# Altium schematic symbol library WE-LQ.SchLib: 52 symbols
Pins are listed as number, name and electrical type; pins without a type are passive.

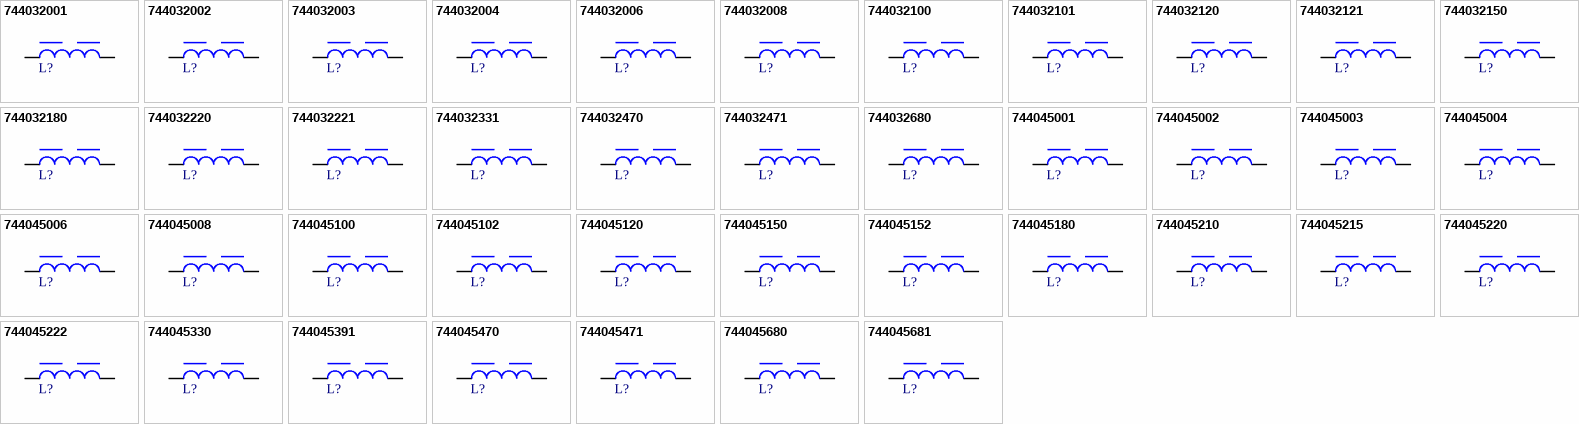
[diagram p0: symbols 744032001 to 744045681]

## 744032001
designator L?, comment 1uH, 0.75A  (value not drawn)
WE-LQ SMT Power Inductor, size 1210, 1uH, 0.75A; Manufacturer Part Number: 744032001; Manufacturer: Wurth Elektronik; Case/Size Code: 1210; DC Resistance Max: 0.1Ohm; Q Factor: 20; Saturation Current: 3.2A; Self Resonant Frequency: 100MHz; Category: Power Inductors; Match Code: WE-LQ; ComponentLink1Description: Website Link; ComponentLink1URL: https://www.we-online.com/redexpert/article/744032001?ad; ComponentLink2Description: Datasheet Link; ComponentLink2URL: https://www.we-online.com/redexpert/spec/744032001?ad; Mount: Surface Mount; Operating Temperature Max: 125°C; Operating Temperature Min: -40°C; Packaging: Tape and Reel; Length: 3.2mm; Width: 2.5mm; Height: 2mm; Inductance: 1uH; Rated Current: 0.75A
footprint WE-LQ_1210
simulation model 1210_744032001_1u
pins: 1, 2

## 744032002
designator L?, comment 2.2uH, 0.62A  (value not drawn)
WE-LQ SMT Power Inductor, size 1210, 2.2uH, 0.62A; Manufacturer Part Number: 744032002; Manufacturer: Wurth Elektronik; Case/Size Code: 1210; DC Resistance Max: 0.15Ohm; Q Factor: 20; Saturation Current: 1.8A; Self Resonant Frequency: 50MHz; Category: Power Inductors; Match Code: WE-LQ; ComponentLink1Description: Website Link; ComponentLink1URL: https://www.we-online.com/redexpert/article/744032002?ad; ComponentLink2Description: Datasheet Link; ComponentLink2URL: https://www.we-online.com/redexpert/spec/744032002?ad; Mount: Surface Mount; Operating Temperature Max: 125°C; Operating Temperature Min: -40°C; Packaging: Tape and Reel; Length: 3.2mm; Width: 2.5mm; Height: 2mm; Inductance: 2.2uH; Rated Current: 0.62A
footprint WE-LQ_1210
simulation model 1210_744032002_2.2u
pins: 1, 2

## 744032003
designator L?, comment 3.3uH, 0.58A  (value not drawn)
WE-LQ SMT Power Inductor, size 1210, 3.3uH, 0.58A; Manufacturer Part Number: 744032003; Manufacturer: Wurth Elektronik; Case/Size Code: 1210; DC Resistance Max: 0.2Ohm; Q Factor: 20; Saturation Current: 1.5A; Self Resonant Frequency: 38MHz; Category: Power Inductors; Match Code: WE-LQ; ComponentLink1Description: Website Link; ComponentLink1URL: https://www.we-online.com/redexpert/article/744032003?ad; ComponentLink2Description: Datasheet Link; ComponentLink2URL: https://www.we-online.com/redexpert/spec/744032003?ad; Mount: Surface Mount; Operating Temperature Max: 125°C; Operating Temperature Min: -40°C; Packaging: Tape and Reel; Length: 3.2mm; Width: 2.5mm; Height: 2mm; Inductance: 3.3uH; Rated Current: 0.58A
footprint WE-LQ_1210
simulation model 1210_744032003_3.3u
pins: 1, 2

## 744032004
designator L?, comment 4.7uH, 0.49A  (value not drawn)
WE-LQ SMT Power Inductor, size 1210, 4.7uH, 0.49A; Manufacturer Part Number: 744032004; Manufacturer: Wurth Elektronik; Case/Size Code: 1210; DC Resistance Max: 0.28Ohm; Q Factor: 20; Saturation Current: 1.25A; Self Resonant Frequency: 31MHz; Category: Power Inductors; Match Code: WE-LQ; ComponentLink1Description: Website Link; ComponentLink1URL: https://www.we-online.com/redexpert/article/744032004?ad; ComponentLink2Description: Datasheet Link; ComponentLink2URL: https://www.we-online.com/redexpert/spec/744032004?ad; Mount: Surface Mount; Operating Temperature Max: 125°C; Operating Temperature Min: -40°C; Packaging: Tape and Reel; Length: 3.2mm; Width: 2.5mm; Height: 2mm; Inductance: 4.7uH; Rated Current: 0.49A
footprint WE-LQ_1210
simulation model 1210_744032004_4.7u
pins: 1, 2

## 744032006
designator L?, comment 6.8uH, 0.42A  (value not drawn)
WE-LQ SMT Power Inductor, size 1210, 6.8uH, 0.42A; Manufacturer Part Number: 744032006; Manufacturer: Wurth Elektronik; Case/Size Code: 1210; DC Resistance Max: 0.4Ohm; Q Factor: 20; Saturation Current: 1.1A; Self Resonant Frequency: 25MHz; Category: Power Inductors; Match Code: WE-LQ; ComponentLink1Description: Website Link; ComponentLink1URL: https://www.we-online.com/redexpert/article/744032006?ad; ComponentLink2Description: Datasheet Link; ComponentLink2URL: https://www.we-online.com/redexpert/spec/744032006?ad; Mount: Surface Mount; Operating Temperature Max: 125°C; Operating Temperature Min: -40°C; Packaging: Tape and Reel; Length: 3.2mm; Width: 2.5mm; Height: 2mm; Inductance: 6.8uH; Rated Current: 0.42A
footprint WE-LQ_1210
simulation model 1210_744032006_6.8u
pins: 1, 2

## 744032008
designator L?, comment 8.2uH, 0.39A  (value not drawn)
WE-LQ SMT Power Inductor, size 1210, 8.2uH, 0.39A; Manufacturer Part Number: 744032008; Manufacturer: Wurth Elektronik; Case/Size Code: 1210; DC Resistance Max: 0.45Ohm; Q Factor: 20; Saturation Current: 0.95A; Self Resonant Frequency: 23MHz; Category: Power Inductors; Match Code: WE-LQ; ComponentLink1Description: Website Link; ComponentLink1URL: https://www.we-online.com/redexpert/article/744032008?ad; ComponentLink2Description: Datasheet Link; ComponentLink2URL: https://www.we-online.com/redexpert/spec/744032008?ad; Mount: Surface Mount; Operating Temperature Max: 125°C; Operating Temperature Min: -40°C; Packaging: Tape and Reel; Length: 3.2mm; Width: 2.5mm; Height: 2mm; Inductance: 8.2uH; Rated Current: 0.39A
footprint WE-LQ_1210
simulation model 1210_744032008_8.2u
pins: 1, 2

## 744032100
designator L?, comment 10uH, 0.32A  (value not drawn)
WE-LQ SMT Power Inductor, size 1210, 10uH, 0.32A; Manufacturer Part Number: 744032100; Manufacturer: Wurth Elektronik; Case/Size Code: 1210; DC Resistance Max: 0.65Ohm; Q Factor: 35; Saturation Current: 0.85A; Self Resonant Frequency: 20MHz; Category: Power Inductors; Match Code: WE-LQ; ComponentLink1Description: Website Link; ComponentLink1URL: https://www.we-online.com/redexpert/article/744032100?ad; ComponentLink2Description: Datasheet Link; ComponentLink2URL: https://www.we-online.com/redexpert/spec/744032100?ad; Mount: Surface Mount; Operating Temperature Max: 125°C; Operating Temperature Min: -40°C; Packaging: Tape and Reel; Length: 3.2mm; Width: 2.5mm; Height: 2mm; Inductance: 10uH; Rated Current: 0.32A
footprint WE-LQ_1210
simulation model 1210_744032100_10u
pins: 1, 2

## 744032101
designator L?, comment 100uH, 0.1A  (value not drawn)
WE-LQ SMT Power Inductor, size 1210, 100uH, 0.1A; Manufacturer Part Number: 744032101; Manufacturer: Wurth Elektronik; Case/Size Code: 1210; DC Resistance Max: 6.5Ohm; Q Factor: 40; Saturation Current: 0.25A; Self Resonant Frequency: 8MHz; Category: Power Inductors; Match Code: WE-LQ; ComponentLink1Description: Website Link; ComponentLink1URL: https://www.we-online.com/redexpert/article/744032101?ad; ComponentLink2Description: Datasheet Link; ComponentLink2URL: https://www.we-online.com/redexpert/spec/744032101?ad; Mount: Surface Mount; Operating Temperature Max: 125°C; Operating Temperature Min: -40°C; Packaging: Tape and Reel; Length: 3.2mm; Width: 2.5mm; Height: 2mm; Inductance: 100uH; Rated Current: 0.1A
footprint WE-LQ_1210
simulation model 1210_744032101_100u
pins: 1, 2

## 744032120
designator L?, comment 12uH, 0.29A  (value not drawn)
WE-LQ SMT Power Inductor, size 1210, 12uH, 0.29A; Manufacturer Part Number: 744032120; Manufacturer: Wurth Elektronik; Case/Size Code: 1210; DC Resistance Max: 0.7Ohm; Q Factor: 35; Saturation Current: 0.78A; Self Resonant Frequency: 18MHz; Category: Power Inductors; Match Code: WE-LQ; ComponentLink1Description: Website Link; ComponentLink1URL: https://www.we-online.com/redexpert/article/744032120?ad; ComponentLink2Description: Datasheet Link; ComponentLink2URL: https://www.we-online.com/redexpert/spec/744032120?ad; Mount: Surface Mount; Operating Temperature Max: 125°C; Operating Temperature Min: -40°C; Packaging: Tape and Reel; Length: 3.2mm; Width: 2.5mm; Height: 2mm; Inductance: 12uH; Rated Current: 0.29A
footprint WE-LQ_1210
simulation model 1210_744032120_12u
pins: 1, 2

## 744032121
designator L?, comment 120uH, 0.095A  (value not drawn)
WE-LQ SMT Power Inductor, size 1210, 120uH, 0.095A; Manufacturer Part Number: 744032121; Manufacturer: Wurth Elektronik; Case/Size Code: 1210; DC Resistance Max: 7Ohm; Q Factor: 40; Saturation Current: 0.18A; Self Resonant Frequency: 7MHz; Category: Power Inductors; Match Code: WE-LQ; ComponentLink1Description: Website Link; ComponentLink1URL: https://www.we-online.com/redexpert/article/744032121?ad; ComponentLink2Description: Datasheet Link; ComponentLink2URL: https://www.we-online.com/redexpert/spec/744032121?ad; Mount: Surface Mount; Operating Temperature Max: 125°C; Operating Temperature Min: -40°C; Packaging: Tape and Reel; Length: 3.2mm; Width: 2.5mm; Height: 2mm; Inductance: 120uH; Rated Current: 0.095A
footprint WE-LQ_1210
simulation model 1210_744032121_120u
pins: 1, 2

## 744032150
designator L?, comment 15uH, 0.27A  (value not drawn)
WE-LQ SMT Power Inductor, size 1210, 15uH, 0.27A; Manufacturer Part Number: 744032150; Manufacturer: Wurth Elektronik; Case/Size Code: 1210; DC Resistance Max: 1Ohm; Q Factor: 35; Saturation Current: 0.7A; Self Resonant Frequency: 16MHz; Category: Power Inductors; Match Code: WE-LQ; ComponentLink1Description: Website Link; ComponentLink1URL: https://www.we-online.com/redexpert/article/744032150?ad; ComponentLink2Description: Datasheet Link; ComponentLink2URL: https://www.we-online.com/redexpert/spec/744032150?ad; Mount: Surface Mount; Operating Temperature Max: 125°C; Operating Temperature Min: -40°C; Packaging: Tape and Reel; Length: 3.2mm; Width: 2.5mm; Height: 2mm; Inductance: 15uH; Rated Current: 0.27A
footprint WE-LQ_1210
simulation model 1210_744032150_15u
pins: 1, 2

## 744032180
designator L?, comment 18uH, 0.24A  (value not drawn)
WE-LQ SMT Power Inductor, size 1210, 18uH, 0.24A; Manufacturer Part Number: 744032180; Manufacturer: Wurth Elektronik; Case/Size Code: 1210; DC Resistance Max: 1.1Ohm; Q Factor: 35; Saturation Current: 0.65A; Self Resonant Frequency: 15MHz; Category: Power Inductors; Match Code: WE-LQ; ComponentLink1Description: Website Link; ComponentLink1URL: https://www.we-online.com/redexpert/article/744032180?ad; ComponentLink2Description: Datasheet Link; ComponentLink2URL: https://www.we-online.com/redexpert/spec/744032180?ad; Mount: Surface Mount; Operating Temperature Max: 125°C; Operating Temperature Min: -40°C; Packaging: Tape and Reel; Length: 3.2mm; Width: 2.5mm; Height: 2mm; Inductance: 18uH; Rated Current: 0.24A
footprint WE-LQ_1210
simulation model 1210_744032180_18u
pins: 1, 2

## 744032220
designator L?, comment 22uH, 0.22A  (value not drawn)
WE-LQ SMT Power Inductor, size 1210, 22uH, 0.22A; Manufacturer Part Number: 744032220; Manufacturer: Wurth Elektronik; Case/Size Code: 1210; DC Resistance Max: 1.3Ohm; Q Factor: 35; Saturation Current: 0.6A; Self Resonant Frequency: 14MHz; Category: Power Inductors; Match Code: WE-LQ; ComponentLink1Description: Website Link; ComponentLink1URL: https://www.we-online.com/redexpert/article/744032220?ad; ComponentLink2Description: Datasheet Link; ComponentLink2URL: https://www.we-online.com/redexpert/spec/744032220?ad; Mount: Surface Mount; Operating Temperature Max: 125°C; Operating Temperature Min: -40°C; Packaging: Tape and Reel; Length: 3.2mm; Width: 2.5mm; Height: 2mm; Inductance: 22uH; Rated Current: 0.22A
footprint WE-LQ_1210
simulation model 1210_744032220_22u
pins: 1, 2

## 744032221
designator L?, comment 220uH, 0.075A  (value not drawn)
WE-LQ SMT Power Inductor, size 1210, 220uH, 0.075A; Manufacturer Part Number: 744032221; Manufacturer: Wurth Elektronik; Case/Size Code: 1210; DC Resistance Max: 11.8Ohm; Q Factor: 40; Saturation Current: 0.24A; Self Resonant Frequency: 5MHz; Category: Power Inductors; Match Code: WE-LQ; ComponentLink1Description: Website Link; ComponentLink1URL: https://www.we-online.com/redexpert/article/744032221?ad; ComponentLink2Description: Datasheet Link; ComponentLink2URL: https://www.we-online.com/redexpert/spec/744032221?ad; Mount: Surface Mount; Operating Temperature Max: 125°C; Operating Temperature Min: -40°C; Packaging: Tape and Reel; Length: 3.2mm; Width: 2.5mm; Height: 2mm; Inductance: 220uH; Rated Current: 0.075A
footprint WE-LQ_1210
simulation model 1210_744032221_220u
pins: 1, 2

## 744032331
designator L?, comment 330uH, 0.065A  (value not drawn)
WE-LQ SMT Power Inductor, size 1210, 330uH, 0.065A; Manufacturer Part Number: 744032331; Manufacturer: Wurth Elektronik; Case/Size Code: 1210; DC Resistance Max: 16.5Ohm; Q Factor: 40; Saturation Current: 0.18A; Self Resonant Frequency: 5MHz; Category: Power Inductors; Match Code: WE-LQ; ComponentLink1Description: Website Link; ComponentLink1URL: https://www.we-online.com/redexpert/article/744032331?ad; ComponentLink2Description: Datasheet Link; ComponentLink2URL: https://www.we-online.com/redexpert/spec/744032331?ad; Mount: Surface Mount; Operating Temperature Max: 125°C; Operating Temperature Min: -40°C; Packaging: Tape and Reel; Length: 3.2mm; Width: 2.5mm; Height: 2mm; Inductance: 330uH; Rated Current: 0.065A
footprint WE-LQ_1210
simulation model 1210_744032331_330u
pins: 1, 2

## 744032470
designator L?, comment 47uH, 0.146A  (value not drawn)
WE-LQ SMT Power Inductor, size 1210, 47uH, 0.146A; Manufacturer Part Number: 744032470; Manufacturer: Wurth Elektronik; Case/Size Code: 1210; DC Resistance Max: 3Ohm; Q Factor: 40; Saturation Current: 0.4A; Self Resonant Frequency: 11MHz; Category: Power Inductors; Match Code: WE-LQ; ComponentLink1Description: Website Link; ComponentLink1URL: https://www.we-online.com/redexpert/article/744032470?ad; ComponentLink2Description: Datasheet Link; ComponentLink2URL: https://www.we-online.com/redexpert/spec/744032470?ad; Mount: Surface Mount; Operating Temperature Max: 125°C; Operating Temperature Min: -40°C; Packaging: Tape and Reel; Length: 3.2mm; Width: 2.5mm; Height: 2mm; Inductance: 47uH; Rated Current: 0.146A
footprint WE-LQ_1210
simulation model 1210_744032470_47u
pins: 1, 2

## 744032471
designator L?, comment 470uH, 0.055A  (value not drawn)
WE-LQ SMT Power Inductor, size 1210, 470uH, 0.055A; Manufacturer Part Number: 744032471; Manufacturer: Wurth Elektronik; Case/Size Code: 1210; DC Resistance Max: 25Ohm; Q Factor: 46; Saturation Current: 0.12A; Self Resonant Frequency: 5MHz; Category: Power Inductors; Match Code: WE-LQ; ComponentLink1Description: Website Link; ComponentLink1URL: https://www.we-online.com/redexpert/article/744032471?ad; ComponentLink2Description: Datasheet Link; ComponentLink2URL: https://www.we-online.com/redexpert/spec/744032471?ad; Mount: Surface Mount; Operating Temperature Max: 125°C; Operating Temperature Min: -40°C; Packaging: Tape and Reel; Length: 3.2mm; Width: 2.5mm; Height: 2mm; Inductance: 470uH; Rated Current: 0.055A
footprint WE-LQ_1210
simulation model 1210_744032471_470u
pins: 1, 2

## 744032680
designator L?, comment 68uH, 0.13A  (value not drawn)
WE-LQ SMT Power Inductor, size 1210, 68uH, 0.13A; Manufacturer Part Number: 744032680; Manufacturer: Wurth Elektronik; Case/Size Code: 1210; DC Resistance Max: 3.8Ohm; Q Factor: 35; Saturation Current: 0.3A; Self Resonant Frequency: 9MHz; Category: Power Inductors; Match Code: WE-LQ; ComponentLink1Description: Website Link; ComponentLink1URL: https://www.we-online.com/redexpert/article/744032680?ad; ComponentLink2Description: Datasheet Link; ComponentLink2URL: https://www.we-online.com/redexpert/spec/744032680?ad; Mount: Surface Mount; Operating Temperature Max: 125°C; Operating Temperature Min: -40°C; Packaging: Tape and Reel; Length: 3.2mm; Width: 2.5mm; Height: 2mm; Inductance: 68uH; Rated Current: 0.13A
footprint WE-LQ_1210
simulation model 1210_744032680_68u
pins: 1, 2

## 744045001
designator L?, comment 1uH, 1.8A  (value not drawn)
WE-LQ SMT Power Inductor, size 1812, 1uH, 1.8A; Manufacturer Part Number: 744045001; Manufacturer: Wurth Elektronik; Case/Size Code: 1812; DC Resistance Max: 0.08Ohm; Q Factor: 40; Saturation Current: 4.4A; Self Resonant Frequency: 165MHz; Category: Power Inductors; Match Code: WE-LQ; ComponentLink1Description: Website Link; ComponentLink1URL: https://www.we-online.com/redexpert/article/744045001?ad; ComponentLink2Description: Datasheet Link; ComponentLink2URL: https://www.we-online.com/redexpert/spec/744045001?ad; Mount: Surface Mount; Operating Temperature Max: 125°C; Operating Temperature Min: -40°C; Packaging: Tape and Reel; Length: 4.5mm; Width: 3.2mm; Height: 2.6mm; Inductance: 1uH; Rated Current: 1.8A
footprint WE-LQ_1812
simulation model 1812_744045001_1u
pins: 1, 2

## 744045002
designator L?, comment 2.2uH, 1.6A  (value not drawn)
WE-LQ SMT Power Inductor, size 1812, 2.2uH, 1.6A; Manufacturer Part Number: 744045002; Manufacturer: Wurth Elektronik; Case/Size Code: 1812; DC Resistance Max: 0.11Ohm; Q Factor: 40; Saturation Current: 2.75A; Self Resonant Frequency: 80MHz; Category: Power Inductors; Match Code: WE-LQ; ComponentLink1Description: Website Link; ComponentLink1URL: https://www.we-online.com/redexpert/article/744045002?ad; ComponentLink2Description: Datasheet Link; ComponentLink2URL: https://www.we-online.com/redexpert/spec/744045002?ad; Mount: Surface Mount; Operating Temperature Max: 125°C; Operating Temperature Min: -40°C; Packaging: Tape and Reel; Length: 4.5mm; Width: 3.2mm; Height: 2.6mm; Inductance: 2.2uH; Rated Current: 1.6A
footprint WE-LQ_1812
simulation model 1812_744045002_2.2u
pins: 1, 2

## 744045003
designator L?, comment 3.3uH, 1.4A  (value not drawn)
WE-LQ SMT Power Inductor, size 1812, 3.3uH, 1.4A; Manufacturer Part Number: 744045003; Manufacturer: Wurth Elektronik; Case/Size Code: 1812; DC Resistance Max: 0.13Ohm; Q Factor: 45; Saturation Current: 2.7A; Self Resonant Frequency: 58MHz; Category: Power Inductors; Match Code: WE-LQ; ComponentLink1Description: Website Link; ComponentLink1URL: https://www.we-online.com/redexpert/article/744045003?ad; ComponentLink2Description: Datasheet Link; ComponentLink2URL: https://www.we-online.com/redexpert/spec/744045003?ad; Mount: Surface Mount; Operating Temperature Max: 125°C; Operating Temperature Min: -40°C; Packaging: Tape and Reel; Length: 4.5mm; Width: 3.2mm; Height: 2.6mm; Inductance: 3.3uH; Rated Current: 1.4A
footprint WE-LQ_1812
simulation model 1812_744045003_3.3u
pins: 1, 2

## 744045004
designator L?, comment 4.7uH, 1.24A  (value not drawn)
WE-LQ SMT Power Inductor, size 1812, 4.7uH, 1.24A; Manufacturer Part Number: 744045004; Manufacturer: Wurth Elektronik; Case/Size Code: 1812; DC Resistance Max: 0.15Ohm; Q Factor: 36; Saturation Current: 2A; Self Resonant Frequency: 45MHz; Category: Power Inductors; Match Code: WE-LQ; ComponentLink1Description: Website Link; ComponentLink1URL: https://www.we-online.com/redexpert/article/744045004?ad; ComponentLink2Description: Datasheet Link; ComponentLink2URL: https://www.we-online.com/redexpert/spec/744045004?ad; Mount: Surface Mount; Operating Temperature Max: 125°C; Operating Temperature Min: -40°C; Packaging: Tape and Reel; Length: 4.5mm; Width: 3.2mm; Height: 2.6mm; Inductance: 4.7uH; Rated Current: 1.24A
footprint WE-LQ_1812
simulation model 1812_744045004_4.7u
pins: 1, 2

## 744045006
designator L?, comment 6.8uH, 1.1A  (value not drawn)
WE-LQ SMT Power Inductor, size 1812, 6.8uH, 1.1A; Manufacturer Part Number: 744045006; Manufacturer: Wurth Elektronik; Case/Size Code: 1812; DC Resistance Max: 0.2Ohm; Q Factor: 36; Saturation Current: 1.6A; Self Resonant Frequency: 37MHz; Category: Power Inductors; Match Code: WE-LQ; ComponentLink1Description: Website Link; ComponentLink1URL: https://www.we-online.com/redexpert/article/744045006?ad; ComponentLink2Description: Datasheet Link; ComponentLink2URL: https://www.we-online.com/redexpert/spec/744045006?ad; Mount: Surface Mount; Operating Temperature Max: 125°C; Operating Temperature Min: -40°C; Packaging: Tape and Reel; Length: 4.5mm; Width: 3.2mm; Height: 2.6mm; Inductance: 6.8uH; Rated Current: 1.1A
footprint WE-LQ_1812
simulation model 1812_744045006_6.8u
pins: 1, 2

## 744045008
designator L?, comment 8.2uH, 1A  (value not drawn)
WE-LQ SMT Power Inductor, size 1812, 8.2uH, 1A; Manufacturer Part Number: 744045008; Manufacturer: Wurth Elektronik; Case/Size Code: 1812; DC Resistance Max: 0.25Ohm; Q Factor: 36; Saturation Current: 1.6A; Self Resonant Frequency: 34MHz; Category: Power Inductors; Match Code: WE-LQ; ComponentLink1Description: Website Link; ComponentLink1URL: https://www.we-online.com/redexpert/article/744045008?ad; ComponentLink2Description: Datasheet Link; ComponentLink2URL: https://www.we-online.com/redexpert/spec/744045008?ad; Mount: Surface Mount; Operating Temperature Max: 125°C; Operating Temperature Min: -40°C; Packaging: Tape and Reel; Length: 4.5mm; Width: 3.2mm; Height: 2.6mm; Inductance: 8.2uH; Rated Current: 1A
footprint WE-LQ_1812
simulation model 1812_744045008_8.2u
pins: 1, 2

## 744045100
designator L?, comment 10uH, 0.95A  (value not drawn)
WE-LQ SMT Power Inductor, size 1812, 10uH, 0.95A; Manufacturer Part Number: 744045100; Manufacturer: Wurth Elektronik; Case/Size Code: 1812; DC Resistance Max: 0.3Ohm; Q Factor: 48; Saturation Current: 1.5A; Self Resonant Frequency: 30MHz; Category: Power Inductors; Match Code: WE-LQ; ComponentLink1Description: Website Link; ComponentLink1URL: https://www.we-online.com/redexpert/article/744045100?ad; ComponentLink2Description: Datasheet Link; ComponentLink2URL: https://www.we-online.com/redexpert/spec/744045100?ad; Mount: Surface Mount; Operating Temperature Max: 125°C; Operating Temperature Min: -40°C; Packaging: Tape and Reel; Length: 4.5mm; Width: 3.2mm; Height: 2.6mm; Inductance: 10uH; Rated Current: 0.95A
footprint WE-LQ_1812
simulation model 1812_744045100_10u
pins: 1, 2

## 744045102
designator L?, comment 1000uH, 0.07A  (value not drawn)
WE-LQ SMT Power Inductor, size 1812, 1000uH, 0.07A; Manufacturer Part Number: 744045102; Manufacturer: Wurth Elektronik; Case/Size Code: 1812; DC Resistance Max: 30Ohm; Q Factor: 28; Saturation Current: 0.16A; Self Resonant Frequency: 2MHz; Category: Power Inductors; Match Code: WE-LQ; ComponentLink1Description: Website Link; ComponentLink1URL: https://www.we-online.com/redexpert/article/744045102?ad; ComponentLink2Description: Datasheet Link; ComponentLink2URL: https://www.we-online.com/redexpert/spec/744045102?ad; Mount: Surface Mount; Operating Temperature Max: 125°C; Operating Temperature Min: -40°C; Packaging: Tape and Reel; Length: 4.5mm; Width: 3.2mm; Height: 2.6mm; Inductance: 1000uH; Rated Current: 0.07A
footprint WE-LQ_1812
simulation model 1812_744045102_1m
pins: 1, 2

## 744045120
designator L?, comment 12uH, 0.8A  (value not drawn)
WE-LQ SMT Power Inductor, size 1812, 12uH, 0.8A; Manufacturer Part Number: 744045120; Manufacturer: Wurth Elektronik; Case/Size Code: 1812; DC Resistance Max: 0.42Ohm; Q Factor: 48; Saturation Current: 1.4A; Self Resonant Frequency: 28MHz; Category: Power Inductors; Match Code: WE-LQ; ComponentLink1Description: Website Link; ComponentLink1URL: https://www.we-online.com/redexpert/article/744045120?ad; ComponentLink2Description: Datasheet Link; ComponentLink2URL: https://www.we-online.com/redexpert/spec/744045120?ad; Mount: Surface Mount; Operating Temperature Max: 125°C; Operating Temperature Min: -40°C; Packaging: Tape and Reel; Length: 4.5mm; Width: 3.2mm; Height: 2.6mm; Inductance: 12uH; Rated Current: 0.8A
footprint WE-LQ_1812
simulation model 1812_744045120_12u
pins: 1, 2

## 744045150
designator L?, comment 15uH, 0.73A  (value not drawn)
WE-LQ SMT Power Inductor, size 1812, 15uH, 0.73A; Manufacturer Part Number: 744045150; Manufacturer: Wurth Elektronik; Case/Size Code: 1812; DC Resistance Max: 0.5Ohm; Q Factor: 45; Saturation Current: 1.24A; Self Resonant Frequency: 26MHz; Category: Power Inductors; Match Code: WE-LQ; ComponentLink1Description: Website Link; ComponentLink1URL: https://www.we-online.com/redexpert/article/744045150?ad; ComponentLink2Description: Datasheet Link; ComponentLink2URL: https://www.we-online.com/redexpert/spec/744045150?ad; Mount: Surface Mount; Operating Temperature Max: 125°C; Operating Temperature Min: -40°C; Packaging: Tape and Reel; Length: 4.5mm; Width: 3.2mm; Height: 2.6mm; Inductance: 15uH; Rated Current: 0.73A
footprint WE-LQ_1812
simulation model 1812_744045150_15u
pins: 1, 2

## 744045152
designator L?, comment 1500uH, 0.055A  (value not drawn)
WE-LQ SMT Power Inductor, size 1812, 1500uH, 0.055A; Manufacturer Part Number: 744045152; Manufacturer: Wurth Elektronik; Case/Size Code: 1812; DC Resistance Max: 38.5Ohm; Q Factor: 35; Saturation Current: 0.095A; Self Resonant Frequency: 2MHz; Category: Power Inductors; Match Code: WE-LQ; ComponentLink1Description: Website Link; ComponentLink1URL: https://www.we-online.com/redexpert/article/744045152?ad; ComponentLink2Description: Datasheet Link; ComponentLink2URL: https://www.we-online.com/redexpert/spec/744045152?ad; Mount: Surface Mount; Operating Temperature Max: 125°C; Operating Temperature Min: -40°C; Packaging: Tape and Reel; Length: 4.5mm; Width: 3.2mm; Height: 2.6mm; Inductance: 1500uH; Rated Current: 0.055A
footprint WE-LQ_1812
simulation model 1812_744045152_1.5m
pins: 1, 2

## 744045180
designator L?, comment 18uH, 0.68A  (value not drawn)
WE-LQ SMT Power Inductor, size 1812, 18uH, 0.68A; Manufacturer Part Number: 744045180; Manufacturer: Wurth Elektronik; Case/Size Code: 1812; DC Resistance Max: 0.6Ohm; Q Factor: 42; Saturation Current: 1.1A; Self Resonant Frequency: 22MHz; Category: Power Inductors; Match Code: WE-LQ; ComponentLink1Description: Website Link; ComponentLink1URL: https://www.we-online.com/redexpert/article/744045180?ad; ComponentLink2Description: Datasheet Link; ComponentLink2URL: https://www.we-online.com/redexpert/spec/744045180?ad; Mount: Surface Mount; Operating Temperature Max: 125°C; Operating Temperature Min: -40°C; Packaging: Tape and Reel; Length: 4.5mm; Width: 3.2mm; Height: 2.6mm; Inductance: 18uH; Rated Current: 0.68A
footprint WE-LQ_1812
simulation model 1812_744045180_18u
pins: 1, 2

## 744045210
designator L?, comment 100uH, 0.27A  (value not drawn)
WE-LQ SMT Power Inductor, size 1812, 100uH, 0.27A; Manufacturer Part Number: 744045210; Manufacturer: Wurth Elektronik; Case/Size Code: 1812; DC Resistance Max: 2.5Ohm; Q Factor: 60; Saturation Current: 0.45A; Self Resonant Frequency: 10MHz; Category: Power Inductors; Match Code: WE-LQ; ComponentLink1Description: Website Link; ComponentLink1URL: https://www.we-online.com/redexpert/article/744045210?ad; ComponentLink2Description: Datasheet Link; ComponentLink2URL: https://www.we-online.com/redexpert/spec/744045210?ad; Mount: Surface Mount; Operating Temperature Max: 125°C; Operating Temperature Min: -40°C; Packaging: Tape and Reel; Length: 4.5mm; Width: 3.2mm; Height: 2.6mm; Inductance: 100uH; Rated Current: 0.27A
footprint WE-LQ_1812
simulation model 1812_744045210_100u
pins: 1, 2

## 744045215
designator L?, comment 150uH, 0.22A  (value not drawn)
WE-LQ SMT Power Inductor, size 1812, 150uH, 0.22A; Manufacturer Part Number: 744045215; Manufacturer: Wurth Elektronik; Case/Size Code: 1812; DC Resistance Max: 3.7Ohm; Q Factor: 55; Saturation Current: 0.42A; Self Resonant Frequency: 8MHz; Category: Power Inductors; Match Code: WE-LQ; ComponentLink1Description: Website Link; ComponentLink1URL: https://www.we-online.com/redexpert/article/744045215?ad; ComponentLink2Description: Datasheet Link; ComponentLink2URL: https://www.we-online.com/redexpert/spec/744045215?ad; Mount: Surface Mount; Operating Temperature Max: 125°C; Operating Temperature Min: -40°C; Packaging: Tape and Reel; Length: 4.5mm; Width: 3.2mm; Height: 2.6mm; Inductance: 150uH; Rated Current: 0.22A
footprint WE-LQ_1812
simulation model 1812_744045215_150u
pins: 1, 2

## 744045220
designator L?, comment 22uH, 0.63A  (value not drawn)
WE-LQ SMT Power Inductor, size 1812, 22uH, 0.63A; Manufacturer Part Number: 744045220; Manufacturer: Wurth Elektronik; Case/Size Code: 1812; DC Resistance Max: 0.7Ohm; Q Factor: 50; Saturation Current: 1A; Self Resonant Frequency: 20MHz; Category: Power Inductors; Match Code: WE-LQ; ComponentLink1Description: Website Link; ComponentLink1URL: https://www.we-online.com/redexpert/article/744045220?ad; ComponentLink2Description: Datasheet Link; ComponentLink2URL: https://www.we-online.com/redexpert/spec/744045220?ad; Mount: Surface Mount; Operating Temperature Max: 125°C; Operating Temperature Min: -40°C; Packaging: Tape and Reel; Length: 4.5mm; Width: 3.2mm; Height: 2.6mm; Inductance: 22uH; Rated Current: 0.63A
footprint WE-LQ_1812
simulation model 1812_744045220_22u
pins: 1, 2

## 744045222
designator L?, comment 2200uH, 0.04A  (value not drawn)
WE-LQ SMT Power Inductor, size 1812, 2200uH, 0.04A; Manufacturer Part Number: 744045222; Manufacturer: Wurth Elektronik; Case/Size Code: 1812; DC Resistance Max: 47Ohm; Q Factor: 30; Saturation Current: 0.078A; Self Resonant Frequency: 1MHz; Category: Power Inductors; Match Code: WE-LQ; ComponentLink1Description: Website Link; ComponentLink1URL: https://www.we-online.com/redexpert/article/744045222?ad; ComponentLink2Description: Datasheet Link; ComponentLink2URL: https://www.we-online.com/redexpert/spec/744045222?ad; Mount: Surface Mount; Operating Temperature Max: 125°C; Operating Temperature Min: -40°C; Packaging: Tape and Reel; Length: 4.5mm; Width: 3.2mm; Height: 2.6mm; Inductance: 2200uH; Rated Current: 0.04A
footprint WE-LQ_1812
simulation model 1812_744045222_2.2m
pins: 1, 2

## 744045330
designator L?, comment 33uH, 0.43A  (value not drawn)
WE-LQ SMT Power Inductor, size 1812, 33uH, 0.43A; Manufacturer Part Number: 744045330; Manufacturer: Wurth Elektronik; Case/Size Code: 1812; DC Resistance Max: 1.1Ohm; Q Factor: 55; Saturation Current: 0.85A; Self Resonant Frequency: 18MHz; Category: Power Inductors; Match Code: WE-LQ; ComponentLink1Description: Website Link; ComponentLink1URL: https://www.we-online.com/redexpert/article/744045330?ad; ComponentLink2Description: Datasheet Link; ComponentLink2URL: https://www.we-online.com/redexpert/spec/744045330?ad; Mount: Surface Mount; Operating Temperature Max: 125°C; Operating Temperature Min: -40°C; Packaging: Tape and Reel; Length: 4.5mm; Width: 3.2mm; Height: 2.6mm; Inductance: 33uH; Rated Current: 0.43A
footprint WE-LQ_1812
simulation model 1812_744045330_33u
pins: 1, 2

## 744045391
designator L?, comment 390uH, 0.11A  (value not drawn)
WE-LQ SMT Power Inductor, size 1812, 390uH, 0.11A; Manufacturer Part Number: 744045391; Manufacturer: Wurth Elektronik; Case/Size Code: 1812; DC Resistance Max: 13Ohm; Q Factor: 50; Saturation Current: 0.27A; Self Resonant Frequency: 5MHz; Category: Power Inductors; Match Code: WE-LQ; ComponentLink1Description: Website Link; ComponentLink1URL: https://www.we-online.com/redexpert/article/744045391?ad; ComponentLink2Description: Datasheet Link; ComponentLink2URL: https://www.we-online.com/redexpert/spec/744045391?ad; Mount: Surface Mount; Operating Temperature Max: 125°C; Operating Temperature Min: -40°C; Packaging: Tape and Reel; Length: 4.5mm; Width: 3.2mm; Height: 2.6mm; Inductance: 390uH; Rated Current: 0.11A
footprint WE-LQ_1812
simulation model 1812_744045391_390u
pins: 1, 2

## 744045470
designator L?, comment 47uH, 0.39A  (value not drawn)
WE-LQ SMT Power Inductor, size 1812, 47uH, 0.39A; Manufacturer Part Number: 744045470; Manufacturer: Wurth Elektronik; Case/Size Code: 1812; DC Resistance Max: 1.5Ohm; Q Factor: 55; Saturation Current: 0.73A; Self Resonant Frequency: 16MHz; Category: Power Inductors; Match Code: WE-LQ; ComponentLink1Description: Website Link; ComponentLink1URL: https://www.we-online.com/redexpert/article/744045470?ad; ComponentLink2Description: Datasheet Link; ComponentLink2URL: https://www.we-online.com/redexpert/spec/744045470?ad; Mount: Surface Mount; Operating Temperature Max: 125°C; Operating Temperature Min: -40°C; Packaging: Tape and Reel; Length: 4.5mm; Width: 3.2mm; Height: 2.6mm; Inductance: 47uH; Rated Current: 0.39A
footprint WE-LQ_1812
simulation model 1812_744045470_47u
pins: 1, 2

## 744045471
designator L?, comment 470uH, 0.105A  (value not drawn)
WE-LQ SMT Power Inductor, size 1812, 470uH, 0.105A; Manufacturer Part Number: 744045471; Manufacturer: Wurth Elektronik; Case/Size Code: 1812; DC Resistance Max: 14.2Ohm; Q Factor: 50; Saturation Current: 0.18A; Self Resonant Frequency: 5MHz; Category: Power Inductors; Match Code: WE-LQ; ComponentLink1Description: Website Link; ComponentLink1URL: https://www.we-online.com/redexpert/article/744045471?ad; ComponentLink2Description: Datasheet Link; ComponentLink2URL: https://www.we-online.com/redexpert/spec/744045471?ad; Mount: Surface Mount; Operating Temperature Max: 125°C; Operating Temperature Min: -40°C; Packaging: Tape and Reel; Length: 4.5mm; Width: 3.2mm; Height: 2.6mm; Inductance: 470uH; Rated Current: 0.105A
footprint WE-LQ_1812
simulation model 1812_744045471_470u
pins: 1, 2

## 744045680
designator L?, comment 68uH, 0.33A  (value not drawn)
WE-LQ SMT Power Inductor, size 1812, 68uH, 0.33A; Manufacturer Part Number: 744045680; Manufacturer: Wurth Elektronik; Case/Size Code: 1812; DC Resistance Max: 2.1Ohm; Q Factor: 55; Saturation Current: 0.61A; Self Resonant Frequency: 15MHz; Category: Power Inductors; Match Code: WE-LQ; ComponentLink1Description: Website Link; ComponentLink1URL: https://www.we-online.com/redexpert/article/744045680?ad; ComponentLink2Description: Datasheet Link; ComponentLink2URL: https://www.we-online.com/redexpert/spec/744045680?ad; Mount: Surface Mount; Operating Temperature Max: 125°C; Operating Temperature Min: -40°C; Packaging: Tape and Reel; Length: 4.5mm; Width: 3.2mm; Height: 2.6mm; Inductance: 68uH; Rated Current: 0.33A
footprint WE-LQ_1812
simulation model 1812_744045680_68u
pins: 1, 2

## 744045681
designator L?, comment 680uH, 0.09A  (value not drawn)
WE-LQ SMT Power Inductor, size 1812, 680uH, 0.09A; Manufacturer Part Number: 744045681; Manufacturer: Wurth Elektronik; Case/Size Code: 1812; DC Resistance Max: 16.8Ohm; Q Factor: 45; Saturation Current: 0.2A; Self Resonant Frequency: 3MHz; Category: Power Inductors; Match Code: WE-LQ; ComponentLink1Description: Website Link; ComponentLink1URL: https://www.we-online.com/redexpert/article/744045681?ad; ComponentLink2Description: Datasheet Link; ComponentLink2URL: https://www.we-online.com/redexpert/spec/744045681?ad; Mount: Surface Mount; Operating Temperature Max: 125°C; Operating Temperature Min: -40°C; Packaging: Tape and Reel; Length: 4.5mm; Width: 3.2mm; Height: 2.6mm; Inductance: 680uH; Rated Current: 0.09A
footprint WE-LQ_1812
simulation model 1812_744045681_680u
pins: 1, 2

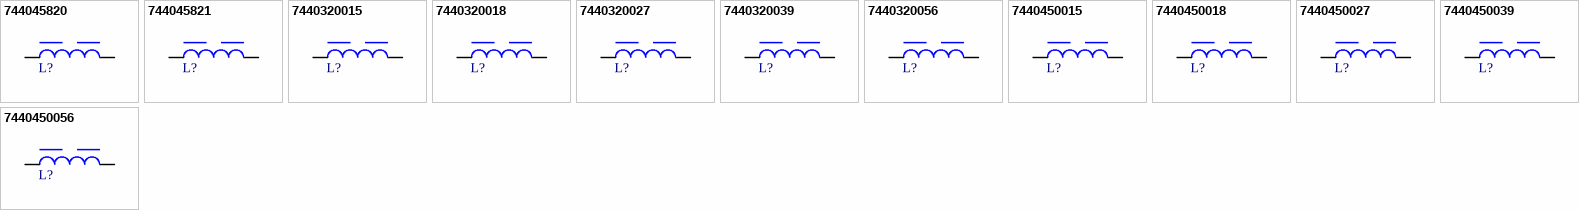
[diagram p1: symbols 744045820 to 7440450056]

## 744045820
designator L?, comment 82uH, 0.3A  (value not drawn)
WE-LQ SMT Power Inductor, size 1812, 82uH, 0.3A; Manufacturer Part Number: 744045820; Manufacturer: Wurth Elektronik; Case/Size Code: 1812; DC Resistance Max: 2.3Ohm; Q Factor: 55; Saturation Current: 0.57A; Self Resonant Frequency: 12MHz; Category: Power Inductors; Match Code: WE-LQ; ComponentLink1Description: Website Link; ComponentLink1URL: https://www.we-online.com/redexpert/article/744045820?ad; ComponentLink2Description: Datasheet Link; ComponentLink2URL: https://www.we-online.com/redexpert/spec/744045820?ad; Mount: Surface Mount; Operating Temperature Max: 125°C; Operating Temperature Min: -40°C; Packaging: Tape and Reel; Length: 4.5mm; Width: 3.2mm; Height: 2.6mm; Inductance: 82uH; Rated Current: 0.3A
footprint WE-LQ_1812
simulation model 1812_744045820_82u
pins: 1, 2

## 744045821
designator L?, comment 820uH, 0.085A  (value not drawn)
WE-LQ SMT Power Inductor, size 1812, 820uH, 0.085A; Manufacturer Part Number: 744045821; Manufacturer: Wurth Elektronik; Case/Size Code: 1812; DC Resistance Max: 20Ohm; Q Factor: 50; Saturation Current: 0.15A; Self Resonant Frequency: 2MHz; Category: Power Inductors; Match Code: WE-LQ; ComponentLink1Description: Website Link; ComponentLink1URL: https://www.we-online.com/redexpert/article/744045821?ad; ComponentLink2Description: Datasheet Link; ComponentLink2URL: https://www.we-online.com/redexpert/spec/744045821?ad; Mount: Surface Mount; Operating Temperature Max: 125°C; Operating Temperature Min: -40°C; Packaging: Tape and Reel; Length: 4.5mm; Width: 3.2mm; Height: 2.6mm; Inductance: 820uH; Rated Current: 0.085A
footprint WE-LQ_1812
simulation model 1812_744045821_820u
pins: 1, 2

## 7440320015
designator L?, comment 1.5uH, 0.66A  (value not drawn)
WE-LQ SMT Power Inductor, size 1210, 1.5uH, 0.66A; Manufacturer Part Number: 7440320015; Manufacturer: Wurth Elektronik; Case/Size Code: 1210; DC Resistance Max: 0.13Ohm; Q Factor: 20; Saturation Current: 2.1A; Self Resonant Frequency: 75MHz; Category: Power Inductors; Match Code: WE-LQ; ComponentLink1Description: Website Link; ComponentLink1URL: https://www.we-online.com/redexpert/article/7440320015?ad; ComponentLink2Description: Datasheet Link; ComponentLink2URL: https://www.we-online.com/redexpert/spec/7440320015?ad; Mount: Surface Mount; Operating Temperature Max: 125°C; Operating Temperature Min: -40°C; Packaging: Tape and Reel; Length: 3.2mm; Width: 2.5mm; Height: 2mm; Inductance: 1.5uH; Rated Current: 0.66A
footprint WE-LQ_1210
simulation model 1210_7440320015_1.5u
pins: 1, 2

## 7440320018
designator L?, comment 1.8uH, 0.64A  (value not drawn)
WE-LQ SMT Power Inductor, size 1210, 1.8uH, 0.64A; Manufacturer Part Number: 7440320018; Manufacturer: Wurth Elektronik; Case/Size Code: 1210; DC Resistance Max: 0.14Ohm; Q Factor: 20; Saturation Current: 2A; Self Resonant Frequency: 60MHz; Category: Power Inductors; Match Code: WE-LQ; ComponentLink1Description: Website Link; ComponentLink1URL: https://www.we-online.com/redexpert/article/7440320018?ad; ComponentLink2Description: Datasheet Link; ComponentLink2URL: https://www.we-online.com/redexpert/spec/7440320018?ad; Mount: Surface Mount; Operating Temperature Max: 125°C; Operating Temperature Min: -40°C; Packaging: Tape and Reel; Length: 3.2mm; Width: 2.5mm; Height: 2mm; Inductance: 1.8uH; Rated Current: 0.64A
footprint WE-LQ_1210
simulation model 1210_7440320018_1.8u
pins: 1, 2

## 7440320027
designator L?, comment 2.7uH, 0.6A  (value not drawn)
WE-LQ SMT Power Inductor, size 1210, 2.7uH, 0.6A; Manufacturer Part Number: 7440320027; Manufacturer: Wurth Elektronik; Case/Size Code: 1210; DC Resistance Max: 0.18Ohm; Q Factor: 20; Saturation Current: 1.6A; Self Resonant Frequency: 43MHz; Category: Power Inductors; Match Code: WE-LQ; ComponentLink1Description: Website Link; ComponentLink1URL: https://www.we-online.com/redexpert/article/7440320027?ad; ComponentLink2Description: Datasheet Link; ComponentLink2URL: https://www.we-online.com/redexpert/spec/7440320027?ad; Mount: Surface Mount; Operating Temperature Max: 125°C; Operating Temperature Min: -40°C; Packaging: Tape and Reel; Length: 3.2mm; Width: 2.5mm; Height: 2mm; Inductance: 2.7uH; Rated Current: 0.6A
footprint WE-LQ_1210
simulation model 1210_7440320027_2.7u
pins: 1, 2

## 7440320039
designator L?, comment 3.9uH, 0.54A  (value not drawn)
WE-LQ SMT Power Inductor, size 1210, 3.9uH, 0.54A; Manufacturer Part Number: 7440320039; Manufacturer: Wurth Elektronik; Case/Size Code: 1210; DC Resistance Max: 0.25Ohm; Q Factor: 20; Saturation Current: 1.35A; Self Resonant Frequency: 35MHz; Category: Power Inductors; Match Code: WE-LQ; ComponentLink1Description: Website Link; ComponentLink1URL: https://www.we-online.com/redexpert/article/7440320039?ad; ComponentLink2Description: Datasheet Link; ComponentLink2URL: https://www.we-online.com/redexpert/spec/7440320039?ad; Mount: Surface Mount; Operating Temperature Max: 125°C; Operating Temperature Min: -40°C; Packaging: Tape and Reel; Length: 3.2mm; Width: 2.5mm; Height: 2mm; Inductance: 3.9uH; Rated Current: 0.54A
footprint WE-LQ_1210
simulation model 1210_7440320039_3.9u
pins: 1, 2

## 7440320056
designator L?, comment 5.6uH, 0.44A  (value not drawn)
WE-LQ SMT Power Inductor, size 1210, 5.6uH, 0.44A; Manufacturer Part Number: 7440320056; Manufacturer: Wurth Elektronik; Case/Size Code: 1210; DC Resistance Max: 0.36Ohm; Q Factor: 20; Saturation Current: 1.15A; Self Resonant Frequency: 28MHz; Category: Power Inductors; Match Code: WE-LQ; ComponentLink1Description: Website Link; ComponentLink1URL: https://www.we-online.com/redexpert/article/7440320056?ad; ComponentLink2Description: Datasheet Link; ComponentLink2URL: https://www.we-online.com/redexpert/spec/7440320056?ad; Mount: Surface Mount; Operating Temperature Max: 125°C; Operating Temperature Min: -40°C; Packaging: Tape and Reel; Length: 3.2mm; Width: 2.5mm; Height: 2mm; Inductance: 5.6uH; Rated Current: 0.44A
footprint WE-LQ_1210
simulation model 1210_7440320056_5.6u
pins: 1, 2

## 7440450015
designator L?, comment 1.5uH, 1.75A  (value not drawn)
WE-LQ SMT Power Inductor, size 1812, 1.5uH, 1.75A; Manufacturer Part Number: 7440450015; Manufacturer: Wurth Elektronik; Case/Size Code: 1812; DC Resistance Max: 0.09Ohm; Q Factor: 42; Saturation Current: 4A; Self Resonant Frequency: 130MHz; Category: Power Inductors; Match Code: WE-LQ; ComponentLink1Description: Website Link; ComponentLink1URL: https://www.we-online.com/redexpert/article/7440450015?ad; ComponentLink2Description: Datasheet Link; ComponentLink2URL: https://www.we-online.com/redexpert/spec/7440450015?ad; Mount: Surface Mount; Operating Temperature Max: 125°C; Operating Temperature Min: -40°C; Packaging: Tape and Reel; Length: 4.5mm; Width: 3.2mm; Height: 2.6mm; Inductance: 1.5uH; Rated Current: 1.75A
footprint WE-LQ_1812
simulation model 1812_7440450015_1.5u
pins: 1, 2

## 7440450018
designator L?, comment 1.8uH, 1.7A  (value not drawn)
WE-LQ SMT Power Inductor, size 1812, 1.8uH, 1.7A; Manufacturer Part Number: 7440450018; Manufacturer: Wurth Elektronik; Case/Size Code: 1812; DC Resistance Max: 0.1Ohm; Q Factor: 45; Saturation Current: 3.5A; Self Resonant Frequency: 100MHz; Category: Power Inductors; Match Code: WE-LQ; ComponentLink1Description: Website Link; ComponentLink1URL: https://www.we-online.com/redexpert/article/7440450018?ad; ComponentLink2Description: Datasheet Link; ComponentLink2URL: https://www.we-online.com/redexpert/spec/7440450018?ad; Mount: Surface Mount; Operating Temperature Max: 125°C; Operating Temperature Min: -40°C; Packaging: Tape and Reel; Length: 4.5mm; Width: 3.2mm; Height: 2.6mm; Inductance: 1.8uH; Rated Current: 1.7A
footprint WE-LQ_1812
simulation model 1812_7440450018_1.8u
pins: 1, 2

## 7440450027
designator L?, comment 2.7uH, 1.5A  (value not drawn)
WE-LQ SMT Power Inductor, size 1812, 2.7uH, 1.5A; Manufacturer Part Number: 7440450027; Manufacturer: Wurth Elektronik; Case/Size Code: 1812; DC Resistance Max: 0.12Ohm; Q Factor: 40; Saturation Current: 2.7A; Self Resonant Frequency: 63MHz; Category: Power Inductors; Match Code: WE-LQ; ComponentLink1Description: Website Link; ComponentLink1URL: https://www.we-online.com/redexpert/article/7440450027?ad; ComponentLink2Description: Datasheet Link; ComponentLink2URL: https://www.we-online.com/redexpert/spec/7440450027?ad; Mount: Surface Mount; Operating Temperature Max: 125°C; Operating Temperature Min: -40°C; Packaging: Tape and Reel; Length: 4.5mm; Width: 3.2mm; Height: 2.6mm; Inductance: 2.7uH; Rated Current: 1.5A
footprint WE-LQ_1812
simulation model 1812_7440450027_2.7u
pins: 1, 2

## 7440450039
designator L?, comment 3.9uH, 1.32A  (value not drawn)
WE-LQ SMT Power Inductor, size 1812, 3.9uH, 1.32A; Manufacturer Part Number: 7440450039; Manufacturer: Wurth Elektronik; Case/Size Code: 1812; DC Resistance Max: 0.14Ohm; Q Factor: 40; Saturation Current: 2.5A; Self Resonant Frequency: 54MHz; Category: Power Inductors; Match Code: WE-LQ; ComponentLink1Description: Website Link; ComponentLink1URL: https://www.we-online.com/redexpert/article/7440450039?ad; ComponentLink2Description: Datasheet Link; ComponentLink2URL: https://www.we-online.com/redexpert/spec/7440450039?ad; Mount: Surface Mount; Operating Temperature Max: 125°C; Operating Temperature Min: -40°C; Packaging: Tape and Reel; Length: 4.5mm; Width: 3.2mm; Height: 2.6mm; Inductance: 3.9uH; Rated Current: 1.32A
footprint WE-LQ_1812
simulation model 1812_7440450039_3.9u
pins: 1, 2

## 7440450056
designator L?, comment 5.6uH, 1.18A  (value not drawn)
WE-LQ SMT Power Inductor, size 1812, 5.6uH, 1.18A; Manufacturer Part Number: 7440450056; Manufacturer: Wurth Elektronik; Case/Size Code: 1812; DC Resistance Max: 0.18Ohm; Q Factor: 36; Saturation Current: 1.9A; Self Resonant Frequency: 41MHz; Category: Power Inductors; Match Code: WE-LQ; ComponentLink1Description: Website Link; ComponentLink1URL: https://www.we-online.com/redexpert/article/7440450056?ad; ComponentLink2Description: Datasheet Link; ComponentLink2URL: https://www.we-online.com/redexpert/spec/7440450056?ad; Mount: Surface Mount; Operating Temperature Max: 125°C; Operating Temperature Min: -40°C; Packaging: Tape and Reel; Length: 4.5mm; Width: 3.2mm; Height: 2.6mm; Inductance: 5.6uH; Rated Current: 1.18A
footprint WE-LQ_1812
simulation model 1812_7440450056_5.6u
pins: 1, 2